# Altium footprint library ESP32_S3_Kit.PcbLib: 1 footprints
Each footprint in its own frame and in the unit in brackets; x right, y up, seen from the top. Pads: shape width x height; smd on the part's side, far side on the other; paste and mask are expansions set on the pad; w line width, h text height; cw(c..) or ccw(c..) is an arc to the next point about the centre after c.
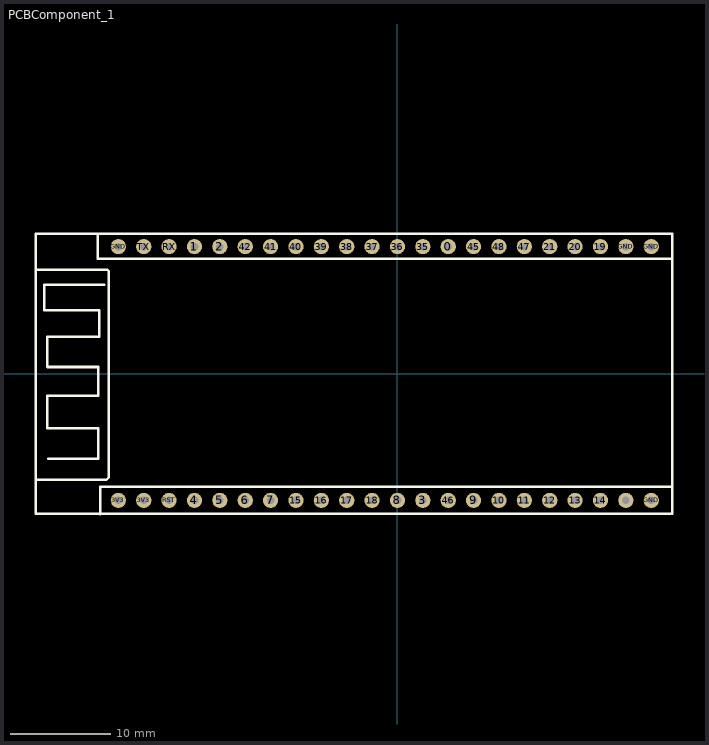
[diagram p0: the footprint, top view; thin cyan lines are the x and y axes]

## PCBComponent_1 [mil]
pads (44):
  round 60 hole 30 paste-99999: 0(200,500) 1(-800,500) 2(-700,500) 3(100,-500) 3V3(-1100,-500) 3V3(-1000,-500) 4(-800,-500) 5(-700,-500) 5Vin(900,-500) 6(-600,-500) 7(-500,-500) 8(0,-500) 9(300,-500) 10(400,-500) 11(500,-500) 12(600,-500) 13(700,-500) 14(800,-500) 15(-400,-500) 16(-300,-500) 17(-200,-500) 18(-100,-500) 19(800,500) 20(700,500) 21(600,500) 35(100,500) 36(0,500) 37(-100,500) 38(-200,500) 39(-300,500) 40(-400,500) 41(-500,500) 42(-600,500) 45(300,500) 46(200,-500) 47(500,500) 48(400,500) GND(-1100,500) GND(900,500) GND(1000,-500) GND(1000,500) RST(-900,-500) RX(-900,500) TX(-1000,500)
Top Overlay:
  lines w10: -1425.2,-419.29 -1147.64,-419.29 -1137.8,-409.45 -1137.8,403.54 -1143.7,409.45 -1423.23,409.45 ; -1375.98,-336.61 -1179.13,-336.61 -1179.13,-216.54 -1379.92,-216.54 -1379.92,-88.58 -1179.13,-88.58 -1179.13,25.59 -1377.95,25.59 -1379.92,27.56 -1379.92,145.67 -1175.2,145.67 -1175.2,250 -1391.73,250 -1391.73,350.39 -1154.77,350.39 ; -1181.1,551.18 -1181.1,452.76 ; -1171.26,-555.12 -1171.26,-446.85 1080.71,-446.85 ; 1082.68,452.76 -1181.1,452.76 ; -1181.1,452.76 -1181.1,452.76 ; -1425.2,-553.15 1082.68,-553.15 1082.68,551.18 -1425.2,551.18 -1425.2,-553.15
3D body "ESP32-S3_pin.stp": height 354.33, standoff -137.8, extent -1425.2,-553.15 1082.68,549.21